# EAGLE library part LP3947 (library NSL_MiniQuad)
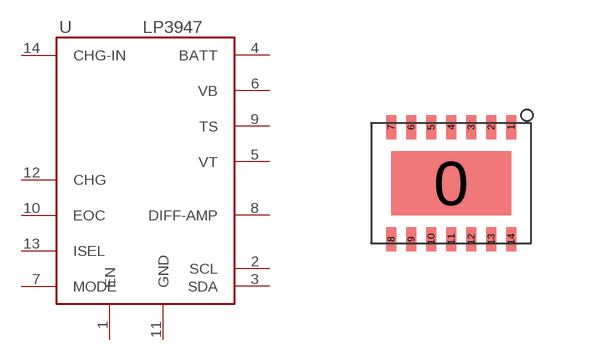
[diagram p3: symbol with the pads of LLP14; footprint LLP14]

Designator prefix -

## LP3947LLP14  [LLP14]
1  EN
2  SCL
3  SDA
4  BATT
5  VT
6  VB
7  MODE
8  DIFF-AMP
9  TS
10  EOC
11  GND
12  CHG
13  ISEL
14  CHG-IN  in

## Footprint LLP14 (pad centres in mm)
smd 3 x 1.6: 0 0,0
smd 0.25 x 0.6: 1 1.5,1.4; 2 1,1.4; 3 0.5,1.4; 4 0,1.4; 5 -0.5,1.4; 6 -1,1.4; 7 -1.5,1.4; 8 -1.5,-1.4; 9 -1,-1.4; 10 -0.5,-1.4; 11 0,-1.4; 12 0.5,-1.4; 13 1,-1.4; 14 1.5,-1.4